# Altium schematic symbol library B3FS-4002P.SchLib: 1 symbol
Pins are listed as number, name and electrical type; pins without a type are passive.

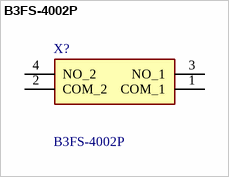
[diagram p0: symbol B3FS-4002P]

## B3FS-4002P
designator X?
Black Cap Tactile Switch, SPST-NO 50 mA @ 24 V dc 0.4mm; Manufacturer_Name: Omron Electronics; Geometry.Height: 4mm; Manufacturer_Part_Number: B3FS-4002P; Mouser Part Number: 653-B3FS-4002P; Mouser Price/Stock: https://www.mouser.co.uk/ProductDetail/Omron-Electronics/B3FS-4002P?qs=%2Fv%252BM2iqGzeVovpzrTEhCpQ%3D%3D; Arrow Part Number: B3FS-4002P; Arrow Price/Stock: https://www.arrow.com/en/products/b3fs-4002p/omron?region=nac; Datasheet Link: http://omronfs.omron.com/en_US/ecb/products/pdf/en-b3fs_4.pdf
footprint B3FS4002P
pins: 1 COM_1, 2 COM_2, 3 NO_1, 4 NO_2